# Altium integrated library ECS-80-20-5PXDU-TR.IntLib: 1 symbol
Pins are listed as number, name and electrical type; pins without a type are passive.

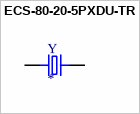
[diagram p0: symbol ECS-80-20-5PXDU-TR]

## ECS-80-20-5PXDU-TR
designator Y
8MHz Â±30ppm Crystal 20pF 60 Ohms HC-49/US; MP: ECS-80-20-5PXDU-TR; MF: ECS Inc.; Package: HC49/US ECS International; Availability: Unavailable; Value: *; SnapEDA_Link: https://www.snapeda.com/parts/ECS-80-20-5PXDU-TR/ECS%20Inc./view-part/584052/?ref=snap; Price: None
footprint XTAL_ECS-80-20-5PXDU-TR
pins: 1, 2